# Altium integrated library 24pin_holes.IntLib: 2 symbols
Pins are listed as number, name and electrical type; pins without a type are passive.

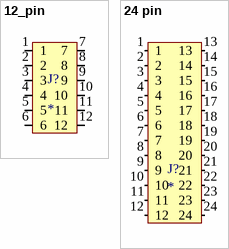
[diagram p0: symbols 12_pin to 24 pin]

## 12_pin
designator J?
DS1013-12
footprint 12 pin
pins: 1, 2, 3, 4, 5, 6, 7, 8, 9, 10, 11, 12

## 24 pin
designator J?
footprint 24 pin (PicoBlade connector RA 12 way)
pins: 1, 2, 3, 4, 5, 6, 7, 8, 9, 10, 11, 12, 13, 14, 15, 16, 17, 18, 19, 20, 21, 22, 23, 24